# Altium integrated library TI Power Management Power Modules.IntLib: 831 symbols (part 33 of 44)
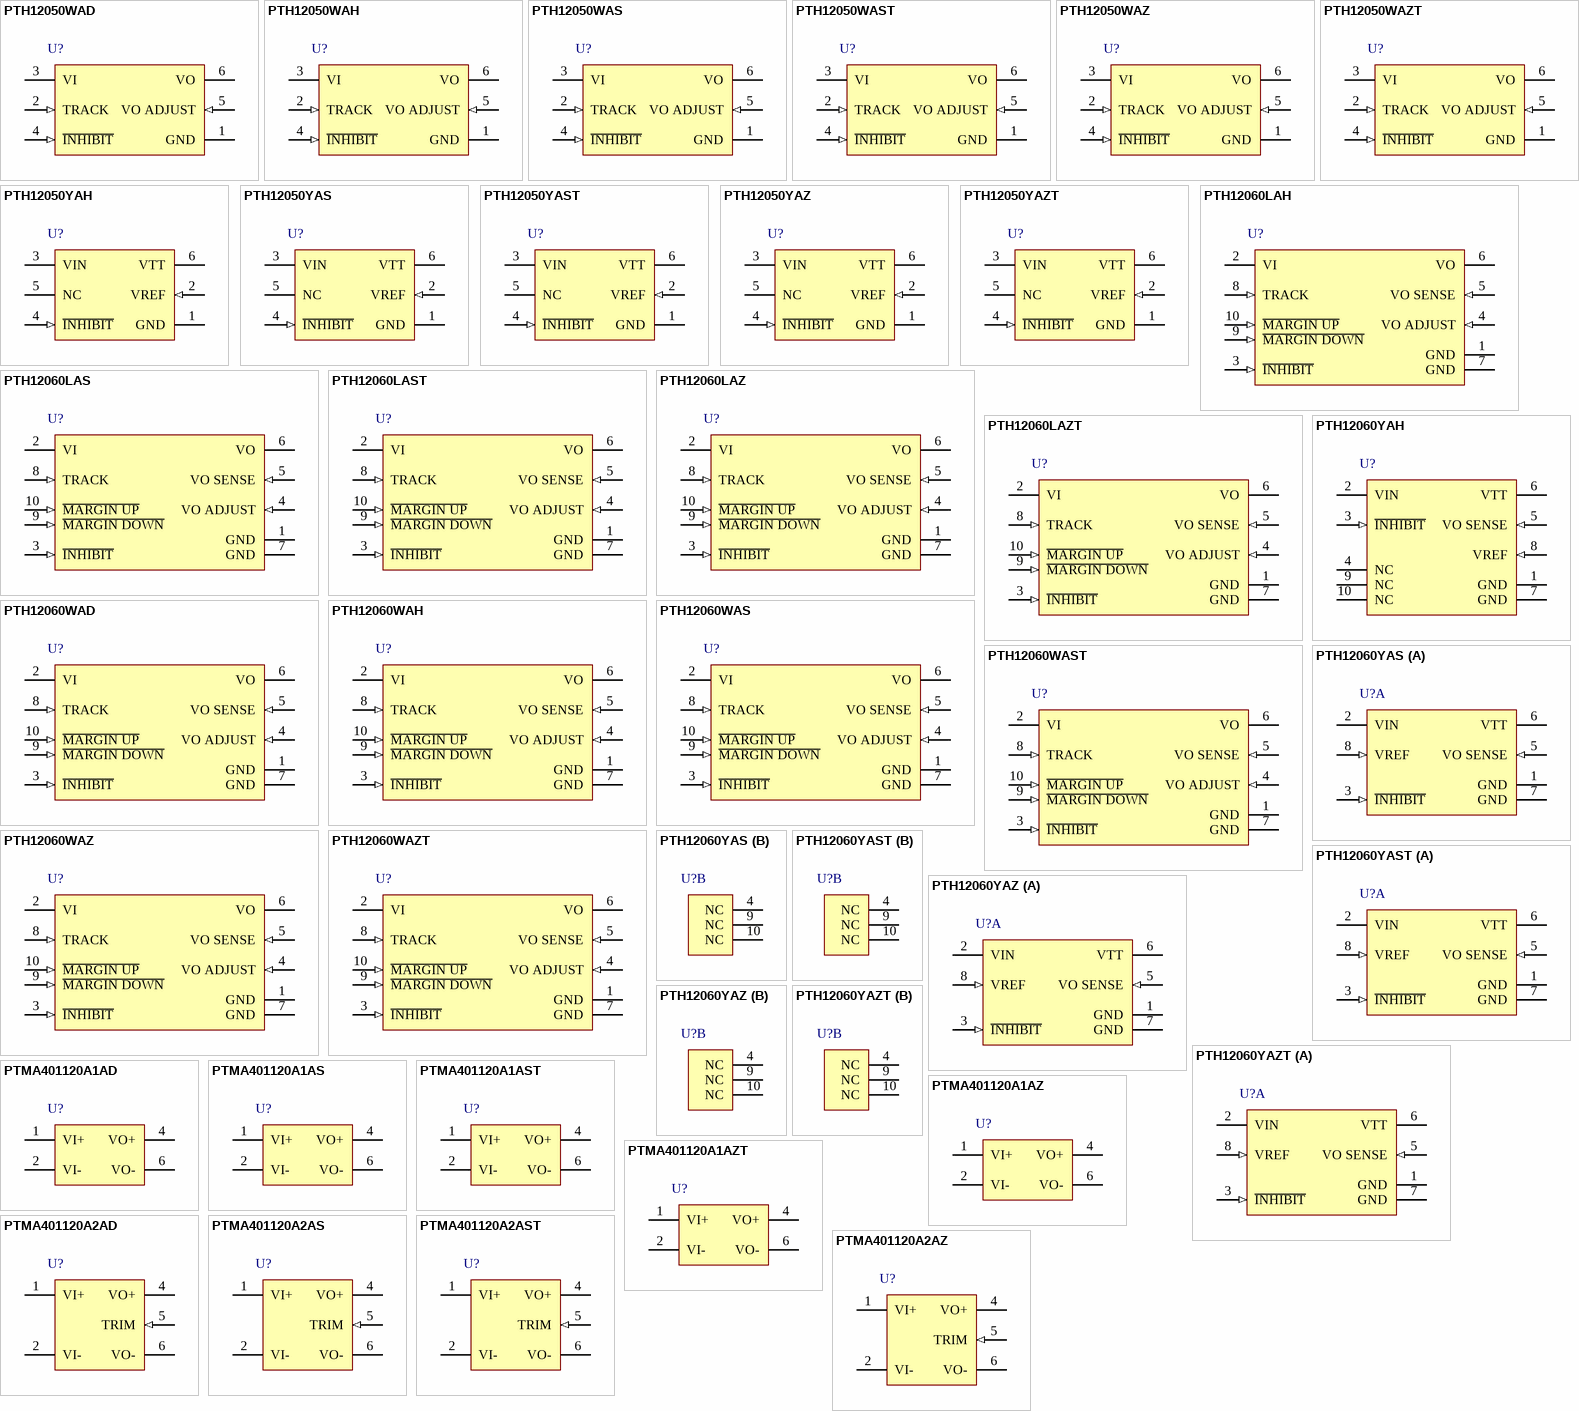
[diagram p55: symbols PTH12050WAD to PTMA401120A2AZ]

## PTH12050WAZ
designator U?
1.2 to 5.5 V, 6 A, 12 V Input Non-Isolated Wide Adjust Module, -40 to 85 degC, 6-pin Module (EUV6), Pb-Free (RoHS); Manufacturer: Texas Instruments; PartNumber: PTH12050WAZ; Iout(Max)(A): 6; Regulated Outputs(#): 1; SubFamily: Non-Isolated POL; Vin(Max)(V): 13.2; Vin(Min)(V): 10.8; VO Adjustable: TRUE; Vout(Max)(V): 5.5; Vout(Min)(V): 1.2; DatasheetVersion: SLTS214H; PackageVersion: 4205247-4/C; PackageReference: EUV6; PackageDescription: 6-Pin Plastic Special Shape, Body 12.57 x 22.1 mm; Supplier 1: Digi-Key; Supplier Part Number 1: 296-20479-ND; Supplier 2: Farnell; Supplier Part Number 2: 1103300; Supplier 3: Newark; Supplier Part Number 3: 97K7876; Supplier 4: Newark; Supplier Part Number 4: 37K0752; Supplier 5: Mouser; Supplier Part Number 5: 595-PTH12050WAZ; Eco-Plan: Pb-Free (RoHS); Mounting Technology: Surface Mount; ComponentLink1Description: Manufacturer URL; ComponentLink1URL: http://www.ti.com/; ComponentLink2Description: Datasheet; ComponentLink2URL: http://www.ti.com/general/docs/lit/getliterature.tsp?genericPartNumber=PTH12050W&fileType=pdf; ComponentLink3Description: Package Specification; ComponentLink3URL: http://www.ti.com/lit/ml/mpds143b/mpds143b.pdf; ComponentLink4Description: URL Link1; ComponentLink4URL: Samples URL:http://www.ti.com/product/pth12050w#samples
footprint TI-EUV6_V (Module, 6-Leads, Body 22.1x12.57mm)
pins: 1 GND (power) "This is the common ground connection for the VI and VO power connections. It is also the 0-VDC reference for the control inputs.", 2 TRACK (in) "This is an analog control input that enables the output voltage to follow an external voltage. This pin becomes active typically 20 ms after the input voltage has been applied, and allows direct control of the output voltage (See Datasheet)", 3 VI (power) "The positive input voltage power node to the module, which is referenced to common GND.", 4 ~{INHIBIT} (in) "The Inhibit pin is an open-collector/drain negative logic input that is referenced to GND. Applying a low-level ground signal to this input disables the module’s output and turns off the output voltage. When the Inhibit (See Datasheet)", 5 VO ADJUST (in) "A 1% resistor must be directly connected between this pin and GND (pin 1) to set the output voltage of the module to a value higher than its lowest value. The temperature stability of the resistor should be 100 ppm/degreesC (See Datasheet)", 6 VO (power) "The regulated positive power output with respect to the GND node."

## PTH12050WAZT
designator U?
1.2 to 5.5 V, 6 A, 12 V Input Non-Isolated Wide Adjust Module, -40 to 85 degC, 6-pin Module (EUV6), Pb-Free (RoHS); Manufacturer: Texas Instruments; PartNumber: PTH12050WAZT; Iout(Max)(A): 6; Regulated Outputs(#): 1; SubFamily: Non-Isolated POL; Vin(Max)(V): 13.2; Vin(Min)(V): 10.8; VO Adjustable: TRUE; Vout(Max)(V): 5.5; Vout(Min)(V): 1.2; DatasheetVersion: SLTS214H; PackageVersion: 4205247-4/C; PackageReference: EUV6; PackageDescription: 6-Pin Plastic Special Shape, Body 12.57 x 22.1 mm; Supplier 1: Digi-Key; Supplier Part Number 1: 296-26315-2-ND; Supplier 2: Digi-Key; Supplier Part Number 2: 296-26315-1-ND; Supplier 3: Digi-Key; Supplier Part Number 3: 296-26315-6-ND; Supplier 4: Newark; Supplier Part Number 4: 37K0753; Supplier 5: Mouser; Supplier Part Number 5: 595-PTH12050WAZT; Eco-Plan: Pb-Free (RoHS); Mounting Technology: Surface Mount; ComponentLink1Description: Manufacturer URL; ComponentLink1URL: http://www.ti.com/; ComponentLink2Description: Datasheet; ComponentLink2URL: http://www.ti.com/general/docs/lit/getliterature.tsp?genericPartNumber=PTH12050W&fileType=pdf; ComponentLink3Description: Package Specification; ComponentLink3URL: http://www.ti.com/lit/ml/mpds143b/mpds143b.pdf; ComponentLink4Description: URL Link1; ComponentLink4URL: Samples URL:http://www.ti.com/product/pth12050w#samples
footprint TI-EUV6_V (Module, 6-Leads, Body 22.1x12.57mm)
pins: 1 GND (power) "This is the common ground connection for the VI and VO power connections. It is also the 0-VDC reference for the control inputs.", 2 TRACK (in) "This is an analog control input that enables the output voltage to follow an external voltage. This pin becomes active typically 20 ms after the input voltage has been applied, and allows direct control of the output voltage (See Datasheet)", 3 VI (power) "The positive input voltage power node to the module, which is referenced to common GND.", 4 ~{INHIBIT} (in) "The Inhibit pin is an open-collector/drain negative logic input that is referenced to GND. Applying a low-level ground signal to this input disables the module’s output and turns off the output voltage. When the Inhibit (See Datasheet)", 5 VO ADJUST (in) "A 1% resistor must be directly connected between this pin and GND (pin 1) to set the output voltage of the module to a value higher than its lowest value. The temperature stability of the resistor should be 100 ppm/degreesC (See Datasheet)", 6 VO (power) "The regulated positive power output with respect to the GND node."

## PTH12050YAH
designator U?
6 A, 12 V Input Non-Isolated DDR / QDR Memory Bus Termination Module, -40 to 85 degC, 6-pin Module (EUU6), Pb-Free (RoHS); Manufacturer: Texas Instruments; PartNumber: PTH12050YAH; Iout(Max)(A): 6; Regulated Outputs(#): 1; SubFamily: Non-Isolated POL; Vin(Max)(V): 13.2; Vin(Min)(V): 10.8; Vout(Max)(V): 1.8; Vout(Min)(V): 0.55; DatasheetVersion: SLTS221A; PackageVersion: 4205246-4/C; PackageReference: EUU6; PackageDescription: 6-Pin Plastic Special Shape, Body 12.57 x 22.1 mm; Supplier 1: Digi-Key; Supplier Part Number 1: 296-20480-ND; Supplier 2: Newark; Supplier Part Number 2: 01J0656; Supplier 3: Mouser; Supplier Part Number 3: 595-PTH12050YAH; Eco-Plan: Pb-Free (RoHS); Mounting Technology: Through Hole; ComponentLink1Description: Manufacturer URL; ComponentLink1URL: http://www.ti.com/; ComponentLink2Description: Datasheet; ComponentLink2URL: http://www.ti.com/general/docs/lit/getliterature.tsp?genericPartNumber=PTH12050Y&fileType=pdf; ComponentLink3Description: Package Specification; ComponentLink3URL: http://www.ti.com/lit/ml/mpds142b/mpds142b.pdf; ComponentLink4Description: URL Link1; ComponentLink4URL: Samples URL:http://www.ti.com/product/pth12050y#samples
footprint TI-EUU6_V (Module, 6-Leads, Body 22.1.12x12.57mm)
pins: 1 GND (power) "This is the common ground connection for the VIN and VTT power connections. It is also the 0-VDC reference for the control inputs.", 2 VREF (in) "The module senses the voltage at this input to regulate the output voltage, VTT. The voltage at VREF is also the reference voltage for the system bus receiver comparators. It is normally set to precisely half the bus driver (See Datasheet)", 3 VIN (power) "The positive input voltage power node to the module, which is referenced to common GND.", 4 ~{INHIBIT} (in) "The Inhibit pin is an open-collector/drain negative logic input that is referenced to GND. Applying a low-level ground signal to this input turns off the output voltage, VTT. Although the module is inhibited, a voltage, VDDQ (See Datasheet)", 5 NC "No Connection", 6 VTT (power) "This is the regulated power output from the module with respect to the GND node, and the tracking termination supply for the application data and address buses. It is precisely regulated to the voltage applied to the (See Datasheet)"

## PTH12050YAS
designator U?
6 A, 12 V Input Non-Isolated DDR / QDR Memory Bus Termination Module, -40 to 85 degC, 6-pin Module (EUV6); Manufacturer: Texas Instruments; PartNumber: PTH12050YAS; Eco-Plan: TBD; Iout(Max)(A): 6; Regulated Outputs(#): 1; SubFamily: Non-Isolated POL; Vin(Max)(V): 13.2; Vin(Min)(V): 10.8; Vout(Max)(V): 1.8; Vout(Min)(V): 0.55; DatasheetVersion: SLTS221A; PackageVersion: 4205247-4/C; PackageReference: EUV6; PackageDescription: 6-Pin Plastic Special Shape, Body 12.57 x 22.1 mm; Supplier 1: Digi-Key; Supplier Part Number 1: 296-20481-ND; Supplier 2: Newark; Supplier Part Number 2: 01J0657; Supplier 3: Mouser; Supplier Part Number 3: 595-PTH12050YAS; Mounting Technology: Surface Mount; ComponentLink1Description: Manufacturer URL; ComponentLink1URL: http://www.ti.com/; ComponentLink2Description: Datasheet; ComponentLink2URL: http://www.ti.com/general/docs/lit/getliterature.tsp?genericPartNumber=PTH12050Y&fileType=pdf; ComponentLink3Description: Package Specification; ComponentLink3URL: http://www.ti.com/lit/ml/mpds143b/mpds143b.pdf; ComponentLink4Description: URL Link1; ComponentLink4URL: Samples URL:http://www.ti.com/product/pth12050y#samples
footprint TI-EUV6_V (Module, 6-Leads, Body 22.1x12.57mm)
pins: 1 GND (power) "This is the common ground connection for the VIN and VTT power connections. It is also the 0-VDC reference for the control inputs.", 2 VREF (in) "The module senses the voltage at this input to regulate the output voltage, VTT. The voltage at VREF is also the reference voltage for the system bus receiver comparators. It is normally set to precisely half the bus driver (See Datasheet)", 3 VIN (power) "The positive input voltage power node to the module, which is referenced to common GND.", 4 ~{INHIBIT} (in) "The Inhibit pin is an open-collector/drain negative logic input that is referenced to GND. Applying a low-level ground signal to this input turns off the output voltage, VTT. Although the module is inhibited, a voltage, VDDQ (See Datasheet)", 5 NC "No Connection", 6 VTT (power) "This is the regulated power output from the module with respect to the GND node, and the tracking termination supply for the application data and address buses. It is precisely regulated to the voltage applied to the (See Datasheet)"

## PTH12050YAST
designator U?
6 A, 12 V Input Non-Isolated DDR / QDR Memory Bus Termination Module, -40 to 85 degC, 6-pin Module (EUV6); Manufacturer: Texas Instruments; PartNumber: PTH12050YAST; Eco-Plan: TBD; Iout(Max)(A): 6; Regulated Outputs(#): 1; SubFamily: Non-Isolated POL; Vin(Max)(V): 13.2; Vin(Min)(V): 10.8; Vout(Max)(V): 1.8; Vout(Min)(V): 0.55; DatasheetVersion: SLTS221A; PackageVersion: 4205247-4/C; PackageReference: EUV6; PackageDescription: 6-Pin Plastic Special Shape, Body 12.57 x 22.1 mm; Supplier 1: Digi-Key; Supplier Part Number 1: PTH12050YAST-ND; Supplier 2: Newark; Supplier Part Number 2: 01J0658; Supplier 3: Mouser; Supplier Part Number 3: 595-PTH12050YAST; Mounting Technology: Surface Mount; ComponentLink1Description: Manufacturer URL; ComponentLink1URL: http://www.ti.com/; ComponentLink2Description: Datasheet; ComponentLink2URL: http://www.ti.com/general/docs/lit/getliterature.tsp?genericPartNumber=PTH12050Y&fileType=pdf; ComponentLink3Description: Package Specification; ComponentLink3URL: http://www.ti.com/lit/ml/mpds143b/mpds143b.pdf; ComponentLink4Description: URL Link1; ComponentLink4URL: Samples URL:http://www.ti.com/product/pth12050y#samples
footprint TI-EUV6_V (Module, 6-Leads, Body 22.1x12.57mm)
pins: 1 GND (power) "This is the common ground connection for the VIN and VTT power connections. It is also the 0-VDC reference for the control inputs.", 2 VREF (in) "The module senses the voltage at this input to regulate the output voltage, VTT. The voltage at VREF is also the reference voltage for the system bus receiver comparators. It is normally set to precisely half the bus driver (See Datasheet)", 3 VIN (power) "The positive input voltage power node to the module, which is referenced to common GND.", 4 ~{INHIBIT} (in) "The Inhibit pin is an open-collector/drain negative logic input that is referenced to GND. Applying a low-level ground signal to this input turns off the output voltage, VTT. Although the module is inhibited, a voltage, VDDQ (See Datasheet)", 5 NC "No Connection", 6 VTT (power) "This is the regulated power output from the module with respect to the GND node, and the tracking termination supply for the application data and address buses. It is precisely regulated to the voltage applied to the (See Datasheet)"

## PTH12050YAZ
designator U?
6 A, 12 V Input Non-Isolated DDR / QDR Memory Bus Termination Module, -40 to 85 degC, 6-pin Module (EUV6), Pb-Free (RoHS); Manufacturer: Texas Instruments; PartNumber: PTH12050YAZ; Iout(Max)(A): 6; Regulated Outputs(#): 1; SubFamily: Non-Isolated POL; Vin(Max)(V): 13.2; Vin(Min)(V): 10.8; Vout(Max)(V): 1.8; Vout(Min)(V): 0.55; DatasheetVersion: SLTS221A; PackageVersion: 4205247-4/C; PackageReference: EUV6; PackageDescription: 6-Pin Plastic Special Shape, Body 12.57 x 22.1 mm; Supplier 1: Digi-Key; Supplier Part Number 1: 296-20482-ND; Supplier 2: Newark; Supplier Part Number 2: 37K0754; Supplier 3: Mouser; Supplier Part Number 3: 595-PTH12050YAZ; Eco-Plan: Pb-Free (RoHS); Mounting Technology: Surface Mount; ComponentLink1Description: Manufacturer URL; ComponentLink1URL: http://www.ti.com/; ComponentLink2Description: Datasheet; ComponentLink2URL: http://www.ti.com/general/docs/lit/getliterature.tsp?genericPartNumber=PTH12050Y&fileType=pdf; ComponentLink3Description: Package Specification; ComponentLink3URL: http://www.ti.com/lit/ml/mpds143b/mpds143b.pdf; ComponentLink4Description: URL Link1; ComponentLink4URL: Samples URL:http://www.ti.com/product/pth12050y#samples
footprint TI-EUV6_V (Module, 6-Leads, Body 22.1x12.57mm)
pins: 1 GND (power) "This is the common ground connection for the VIN and VTT power connections. It is also the 0-VDC reference for the control inputs.", 2 VREF (in) "The module senses the voltage at this input to regulate the output voltage, VTT. The voltage at VREF is also the reference voltage for the system bus receiver comparators. It is normally set to precisely half the bus driver (See Datasheet)", 3 VIN (power) "The positive input voltage power node to the module, which is referenced to common GND.", 4 ~{INHIBIT} (in) "The Inhibit pin is an open-collector/drain negative logic input that is referenced to GND. Applying a low-level ground signal to this input turns off the output voltage, VTT. Although the module is inhibited, a voltage, VDDQ (See Datasheet)", 5 NC "No Connection", 6 VTT (power) "This is the regulated power output from the module with respect to the GND node, and the tracking termination supply for the application data and address buses. It is precisely regulated to the voltage applied to the (See Datasheet)"

## PTH12050YAZT
designator U?
6 A, 12 V Input Non-Isolated DDR / QDR Memory Bus Termination Module, -40 to 85 degC, 6-pin Module (EUV6), Pb-Free (RoHS); Manufacturer: Texas Instruments; PartNumber: PTH12050YAZT; Iout(Max)(A): 6; Regulated Outputs(#): 1; SubFamily: Non-Isolated POL; Vin(Max)(V): 13.2; Vin(Min)(V): 10.8; Vout(Max)(V): 1.8; Vout(Min)(V): 0.55; DatasheetVersion: SLTS221A; PackageVersion: 4205247-4/C; PackageReference: EUV6; PackageDescription: 6-Pin Plastic Special Shape, Body 12.57 x 22.1 mm; Supplier 1: Digi-Key; Supplier Part Number 1: PTH12050YAZT-ND; Supplier 2: Newark; Supplier Part Number 2: 37K0755; Supplier 3: Mouser; Supplier Part Number 3: 595-PTH12050YAZT; Eco-Plan: Pb-Free (RoHS); Mounting Technology: Surface Mount; ComponentLink1Description: Manufacturer URL; ComponentLink1URL: http://www.ti.com/; ComponentLink2Description: Datasheet; ComponentLink2URL: http://www.ti.com/general/docs/lit/getliterature.tsp?genericPartNumber=PTH12050Y&fileType=pdf; ComponentLink3Description: Package Specification; ComponentLink3URL: http://www.ti.com/lit/ml/mpds143b/mpds143b.pdf; ComponentLink4Description: URL Link1; ComponentLink4URL: Samples URL:http://www.ti.com/product/pth12050y#samples
footprint TI-EUV6_V (Module, 6-Leads, Body 22.1x12.57mm)
pins: 1 GND (power) "This is the common ground connection for the VIN and VTT power connections. It is also the 0-VDC reference for the control inputs.", 2 VREF (in) "The module senses the voltage at this input to regulate the output voltage, VTT. The voltage at VREF is also the reference voltage for the system bus receiver comparators. It is normally set to precisely half the bus driver (See Datasheet)", 3 VIN (power) "The positive input voltage power node to the module, which is referenced to common GND.", 4 ~{INHIBIT} (in) "The Inhibit pin is an open-collector/drain negative logic input that is referenced to GND. Applying a low-level ground signal to this input turns off the output voltage, VTT. Although the module is inhibited, a voltage, VDDQ (See Datasheet)", 5 NC "No Connection", 6 VTT (power) "This is the regulated power output from the module with respect to the GND node, and the tracking termination supply for the application data and address buses. It is precisely regulated to the voltage applied to the (See Datasheet)"

## PTH12060LAH
designator U?
0.8 to 1.8 V, 10 A, 12 V Input Non-Isolated Wide Adjust Module, -40 to 85 degC, 10-pin Module (EUW10), Pb-Free (RoHS); Manufacturer: Texas Instruments; PartNumber: PTH12060LAH; Iout(Max)(A): 10; Regulated Outputs(#): 1; SubFamily: Non-Isolated POL; Vin(Max)(V): 13.2; Vin(Min)(V): 10.8; VO Adjustable: TRUE; Vout(Max)(V): 1.8; Vout(Min)(V): 0.8; DatasheetVersion: SLTS217H; PackageVersion: 4205248-3/B; PackageReference: EUW10; PackageDescription: 10-Pin Plastic Special Shape, Body 15.75 x 25.27 mm; Supplier 1: Digi-Key; Supplier Part Number 1: 296-20483-ND; Supplier 2: Newark; Supplier Part Number 2: 01J0659; Supplier 3: Mouser; Supplier Part Number 3: 595-PTH12060LAH; Eco-Plan: Pb-Free (RoHS); Mounting Technology: Through Hole; ComponentLink1Description: Manufacturer URL; ComponentLink1URL: http://www.ti.com/; ComponentLink2Description: Datasheet; ComponentLink2URL: http://www.ti.com/general/docs/lit/getliterature.tsp?genericPartNumber=PTH12060L&fileType=pdf; ComponentLink3Description: Package Specification; ComponentLink3URL: http://www.ti.com/litv/pdf/mpds144a; ComponentLink4Description: URL Link1; ComponentLink4URL: Samples URL:http://www.ti.com/product/pth12060l#samples
footprint TI-EUW10_V (Module, 10-Leads, Body 25.27x15.75mm)
pins: 1 GND (power) "This is the common ground connection for the Vin and Vout power connections. It is also the 0 VDC reference for the control inputs.", 2 VI (power) "The positive input voltage power node to the module, which is referenced to common GND.", 3 ~{INHIBIT} (in) "The Inhibit pin is an open-collector/drain negative logic input that is referenced to GND. Applying a lowlevel ground signal to this input disables the module’s output and turns off the output voltage. When the Inhibit (See Datasheet)", 4 VO ADJUST (in) "A 1% resistor must be connected directly between this pin and GND (pin 7) to set the output voltage of the module higher than its lowest value. The temperature stability of the resistor should be 100 ppm/degreesC (or better).(See Datasheet)", 5 VO SENSE (in) "The sense input allows the regulation circuit to compensate for voltage drop between the module and the load. For optimal voltage accuracy Vo Sense should be connected to Vout. It can also be left disconnected.", 6 VO (power) "The regulated positive power output with respect to the GND node.", 7 GND (power) "This is the common ground connection for the Vin and Vout power connections. It is also the 0 VDC reference for the control inputs.", 8 TRACK (in) "This is an analog control input that enables the output voltage to follow an external voltage. This pin becomes active typically 20 ms after the input voltage has been applied, and allows direct control of the output voltage (See Datasheet)", 9 ~{MARGIN DOWN} (in) "When this input is asserted to GND, the output voltage is decreased by 5% from the nominal. The input requires an open-collector (open-drain) interface. It is not TTL compatible. A lower percent change can be accomodated (See Datasheet)", 10 ~{MARGIN UP} (in) "When this input is asserted to GND, the output voltage is increased by 5%. The input requires an open-collector (open-drain) interface. It is not TTL compatible. The percent change can be reduced with a series resistor. For (See Datasheet)"

## PTH12060LAS
designator U?
0.8 to 1.8 V, 10 A, 12 V Input Non-Isolated Wide Adjust Module, -40 to 85 degC, 10-pin Module (EUY10); Manufacturer: Texas Instruments; PartNumber: PTH12060LAS; Eco-Plan: TBD; Iout(Max)(A): 10; Regulated Outputs(#): 1; SubFamily: Non-Isolated POL; Vin(Max)(V): 13.2; Vin(Min)(V): 10.8; VO Adjustable: TRUE; Vout(Max)(V): 1.8; Vout(Min)(V): 0.8; DatasheetVersion: SLTS217H; PackageVersion: 4205249-3/B; PackageReference: EUY10; PackageDescription: 10-Pin Plastic Special Shape, Body 15.75 x 25.27 mm; Supplier 1: Digi-Key; Supplier Part Number 1: 296-20484-ND; Supplier 2: Newark; Supplier Part Number 2: 01J0660; Supplier 3: Mouser; Supplier Part Number 3: 595-PTH12060LAS; Mounting Technology: Surface Mount; ComponentLink1Description: Manufacturer URL; ComponentLink1URL: http://www.ti.com/; ComponentLink2Description: Datasheet; ComponentLink2URL: http://www.ti.com/general/docs/lit/getliterature.tsp?genericPartNumber=PTH12060L&fileType=pdf; ComponentLink3Description: Package Specification; ComponentLink3URL: http://www.ti.com/lit/ml/mpds145a/mpds145a.pdf; ComponentLink4Description: URL Link1; ComponentLink4URL: Samples URL:http://www.ti.com/product/pth12060l#samples
footprint TI-EUY10_V (Module, 10-Leads, Body 25.27x15.75mm)
pins: 1 GND (power) "This is the common ground connection for the Vin and Vout power connections. It is also the 0 VDC reference for the control inputs.", 2 VI (power) "The positive input voltage power node to the module, which is referenced to common GND.", 3 ~{INHIBIT} (in) "The Inhibit pin is an open-collector/drain negative logic input that is referenced to GND. Applying a lowlevel ground signal to this input disables the module’s output and turns off the output voltage. When the Inhibit (See Datasheet)", 4 VO ADJUST (in) "A 1% resistor must be connected directly between this pin and GND (pin 7) to set the output voltage of the module higher than its lowest value. The temperature stability of the resistor should be 100 ppm/degreesC (or better).(See Datasheet)", 5 VO SENSE (in) "The sense input allows the regulation circuit to compensate for voltage drop between the module and the load. For optimal voltage accuracy Vo Sense should be connected to Vout. It can also be left disconnected.", 6 VO (power) "The regulated positive power output with respect to the GND node.", 7 GND (power) "This is the common ground connection for the Vin and Vout power connections. It is also the 0 VDC reference for the control inputs.", 8 TRACK (in) "This is an analog control input that enables the output voltage to follow an external voltage. This pin becomes active typically 20 ms after the input voltage has been applied, and allows direct control of the output voltage (See Datasheet)", 9 ~{MARGIN DOWN} (in) "When this input is asserted to GND, the output voltage is decreased by 5% from the nominal. The input requires an open-collector (open-drain) interface. It is not TTL compatible. A lower percent change can be accomodated (See Datasheet)", 10 ~{MARGIN UP} (in) "When this input is asserted to GND, the output voltage is increased by 5%. The input requires an open-collector (open-drain) interface. It is not TTL compatible. The percent change can be reduced with a series resistor. For (See Datasheet)"

## PTH12060LAST
designator U?
0.8 to 1.8 V, 10 A, 12 V Input Non-Isolated Wide Adjust Module, -40 to 85 degC, 10-pin Module (EUY10); Manufacturer: Texas Instruments; PartNumber: PTH12060LAST; Eco-Plan: TBD; Iout(Max)(A): 10; Regulated Outputs(#): 1; SubFamily: Non-Isolated POL; Vin(Max)(V): 13.2; Vin(Min)(V): 10.8; VO Adjustable: TRUE; Vout(Max)(V): 1.8; Vout(Min)(V): 0.8; DatasheetVersion: SLTS217H; PackageVersion: 4205249-3/B; PackageReference: EUY10; PackageDescription: 10-Pin Plastic Special Shape, Body 15.75 x 25.27 mm; Supplier 1: Digi-Key; Supplier Part Number 1: PTH12060LAST-ND; Supplier 2: Newark; Supplier Part Number 2: 01J0661; Supplier 3: Mouser; Supplier Part Number 3: 595-PTH12060LAST; Mounting Technology: Surface Mount; ComponentLink1Description: Manufacturer URL; ComponentLink1URL: http://www.ti.com/; ComponentLink2Description: Datasheet; ComponentLink2URL: http://www.ti.com/general/docs/lit/getliterature.tsp?genericPartNumber=PTH12060L&fileType=pdf; ComponentLink3Description: Package Specification; ComponentLink3URL: http://www.ti.com/lit/ml/mpds145a/mpds145a.pdf; ComponentLink4Description: URL Link1; ComponentLink4URL: Samples URL:http://www.ti.com/product/pth12060l#samples
footprint TI-EUY10_V (Module, 10-Leads, Body 25.27x15.75mm)
pins: 1 GND (power) "This is the common ground connection for the Vin and Vout power connections. It is also the 0 VDC reference for the control inputs.", 2 VI (power) "The positive input voltage power node to the module, which is referenced to common GND.", 3 ~{INHIBIT} (in) "The Inhibit pin is an open-collector/drain negative logic input that is referenced to GND. Applying a lowlevel ground signal to this input disables the module’s output and turns off the output voltage. When the Inhibit (See Datasheet)", 4 VO ADJUST (in) "A 1% resistor must be connected directly between this pin and GND (pin 7) to set the output voltage of the module higher than its lowest value. The temperature stability of the resistor should be 100 ppm/degreesC (or better).(See Datasheet)", 5 VO SENSE (in) "The sense input allows the regulation circuit to compensate for voltage drop between the module and the load. For optimal voltage accuracy Vo Sense should be connected to Vout. It can also be left disconnected.", 6 VO (power) "The regulated positive power output with respect to the GND node.", 7 GND (power) "This is the common ground connection for the Vin and Vout power connections. It is also the 0 VDC reference for the control inputs.", 8 TRACK (in) "This is an analog control input that enables the output voltage to follow an external voltage. This pin becomes active typically 20 ms after the input voltage has been applied, and allows direct control of the output voltage (See Datasheet)", 9 ~{MARGIN DOWN} (in) "When this input is asserted to GND, the output voltage is decreased by 5% from the nominal. The input requires an open-collector (open-drain) interface. It is not TTL compatible. A lower percent change can be accomodated (See Datasheet)", 10 ~{MARGIN UP} (in) "When this input is asserted to GND, the output voltage is increased by 5%. The input requires an open-collector (open-drain) interface. It is not TTL compatible. The percent change can be reduced with a series resistor. For (See Datasheet)"

## PTH12060LAZ
designator U?
0.8 to 1.8 V, 10 A, 12 V Input Non-Isolated Wide Adjust Module, -40 to 85 degC, 10-pin Module (EUY10), Pb-Free (RoHS); Manufacturer: Texas Instruments; PartNumber: PTH12060LAZ; Iout(Max)(A): 10; Regulated Outputs(#): 1; SubFamily: Non-Isolated POL; Vin(Max)(V): 13.2; Vin(Min)(V): 10.8; VO Adjustable: TRUE; Vout(Max)(V): 1.8; Vout(Min)(V): 0.8; DatasheetVersion: SLTS217H; PackageVersion: 4205249-3/B; PackageReference: EUY10; PackageDescription: 10-Pin Plastic Special Shape, Body 15.75 x 25.27 mm; Supplier 1: Digi-Key; Supplier Part Number 1: 296-20485-ND; Supplier 2: Newark; Supplier Part Number 2: 37K0756; Supplier 3: Mouser; Supplier Part Number 3: 595-PTH12060LAZ; Eco-Plan: Pb-Free (RoHS); Mounting Technology: Surface Mount; ComponentLink1Description: Manufacturer URL; ComponentLink1URL: http://www.ti.com/; ComponentLink2Description: Datasheet; ComponentLink2URL: http://www.ti.com/general/docs/lit/getliterature.tsp?genericPartNumber=PTH12060L&fileType=pdf; ComponentLink3Description: Package Specification; ComponentLink3URL: http://www.ti.com/lit/ml/mpds145a/mpds145a.pdf; ComponentLink4Description: URL Link1; ComponentLink4URL: Samples URL:http://www.ti.com/product/pth12060l#samples
footprint TI-EUY10_V (Module, 10-Leads, Body 25.27x15.75mm)
pins: 1 GND (power) "This is the common ground connection for the Vin and Vout power connections. It is also the 0 VDC reference for the control inputs.", 2 VI (power) "The positive input voltage power node to the module, which is referenced to common GND.", 3 ~{INHIBIT} (in) "The Inhibit pin is an open-collector/drain negative logic input that is referenced to GND. Applying a lowlevel ground signal to this input disables the module’s output and turns off the output voltage. When the Inhibit (See Datasheet)", 4 VO ADJUST (in) "A 1% resistor must be connected directly between this pin and GND (pin 7) to set the output voltage of the module higher than its lowest value. The temperature stability of the resistor should be 100 ppm/degreesC (or better).(See Datasheet)", 5 VO SENSE (in) "The sense input allows the regulation circuit to compensate for voltage drop between the module and the load. For optimal voltage accuracy Vo Sense should be connected to Vout. It can also be left disconnected.", 6 VO (power) "The regulated positive power output with respect to the GND node.", 7 GND (power) "This is the common ground connection for the Vin and Vout power connections. It is also the 0 VDC reference for the control inputs.", 8 TRACK (in) "This is an analog control input that enables the output voltage to follow an external voltage. This pin becomes active typically 20 ms after the input voltage has been applied, and allows direct control of the output voltage (See Datasheet)", 9 ~{MARGIN DOWN} (in) "When this input is asserted to GND, the output voltage is decreased by 5% from the nominal. The input requires an open-collector (open-drain) interface. It is not TTL compatible. A lower percent change can be accomodated (See Datasheet)", 10 ~{MARGIN UP} (in) "When this input is asserted to GND, the output voltage is increased by 5%. The input requires an open-collector (open-drain) interface. It is not TTL compatible. The percent change can be reduced with a series resistor. For (See Datasheet)"

## PTH12060LAZT
designator U?
0.8 to 1.8 V, 10 A, 12 V Input Non-Isolated Wide Adjust Module, -40 to 85 degC, 10-pin Module (EUY10), Pb-Free (RoHS); Manufacturer: Texas Instruments; PartNumber: PTH12060LAZT; Iout(Max)(A): 10; Regulated Outputs(#): 1; SubFamily: Non-Isolated POL; Vin(Max)(V): 13.2; Vin(Min)(V): 10.8; VO Adjustable: TRUE; Vout(Max)(V): 1.8; Vout(Min)(V): 0.8; DatasheetVersion: SLTS217H; PackageVersion: 4205249-3/B; PackageReference: EUY10; PackageDescription: 10-Pin Plastic Special Shape, Body 15.75 x 25.27 mm; Supplier 1: Digi-Key; Supplier Part Number 1: PTH12060LAZT-ND; Supplier 2: Newark; Supplier Part Number 2: 37K0757; Supplier 3: Mouser; Supplier Part Number 3: 595-PTH12060LAZT; Eco-Plan: Pb-Free (RoHS); Mounting Technology: Surface Mount; ComponentLink1Description: Manufacturer URL; ComponentLink1URL: http://www.ti.com/; ComponentLink2Description: Datasheet; ComponentLink2URL: http://www.ti.com/general/docs/lit/getliterature.tsp?genericPartNumber=PTH12060L&fileType=pdf; ComponentLink3Description: Package Specification; ComponentLink3URL: http://www.ti.com/lit/ml/mpds145a/mpds145a.pdf; ComponentLink4Description: URL Link1; ComponentLink4URL: Samples URL:http://www.ti.com/product/pth12060l#samples
footprint TI-EUY10_V (Module, 10-Leads, Body 25.27x15.75mm)
pins: 1 GND (power) "This is the common ground connection for the Vin and Vout power connections. It is also the 0 VDC reference for the control inputs.", 2 VI (power) "The positive input voltage power node to the module, which is referenced to common GND.", 3 ~{INHIBIT} (in) "The Inhibit pin is an open-collector/drain negative logic input that is referenced to GND. Applying a lowlevel ground signal to this input disables the module’s output and turns off the output voltage. When the Inhibit (See Datasheet)", 4 VO ADJUST (in) "A 1% resistor must be connected directly between this pin and GND (pin 7) to set the output voltage of the module higher than its lowest value. The temperature stability of the resistor should be 100 ppm/degreesC (or better).(See Datasheet)", 5 VO SENSE (in) "The sense input allows the regulation circuit to compensate for voltage drop between the module and the load. For optimal voltage accuracy Vo Sense should be connected to Vout. It can also be left disconnected.", 6 VO (power) "The regulated positive power output with respect to the GND node.", 7 GND (power) "This is the common ground connection for the Vin and Vout power connections. It is also the 0 VDC reference for the control inputs.", 8 TRACK (in) "This is an analog control input that enables the output voltage to follow an external voltage. This pin becomes active typically 20 ms after the input voltage has been applied, and allows direct control of the output voltage (See Datasheet)", 9 ~{MARGIN DOWN} (in) "When this input is asserted to GND, the output voltage is decreased by 5% from the nominal. The input requires an open-collector (open-drain) interface. It is not TTL compatible. A lower percent change can be accomodated (See Datasheet)", 10 ~{MARGIN UP} (in) "When this input is asserted to GND, the output voltage is increased by 5%. The input requires an open-collector (open-drain) interface. It is not TTL compatible. The percent change can be reduced with a series resistor. For (See Datasheet)"

## PTH12060WAD
designator U?
1.2 to 5.5 V, 10 A, 12 V Input Non-Isolated Wide Adjust Module, -40 to 85 degC, 10-pin Module (EUW10), Pb-Free (RoHS); Manufacturer: Texas Instruments; PartNumber: PTH12060WAD; Iout(Max)(A): 10; Regulated Outputs(#): 1; SubFamily: Non-Isolated POL; Vin(Max)(V): 13.2; Vin(Min)(V): 10.8; VO Adjustable: TRUE; Vout(Max)(V): 5.5; Vout(Min)(V): 1.2; DatasheetVersion: SLTS217H; PackageVersion: 4205248-3/B; PackageReference: EUW10; PackageDescription: 10-Pin Plastic Special Shape, Body 15.75 x 25.27 mm; Supplier 1: Digi-Key; Supplier Part Number 1: 296-26316-ND; Supplier 2: Farnell; Supplier Part Number 2: 1103302; Supplier 3: Newark; Supplier Part Number 3: 97K7877; Supplier 4: Newark; Supplier Part Number 4: 58K6014; Supplier 5: Mouser; Supplier Part Number 5: 595-PTH12060WAD; Eco-Plan: Pb-Free (RoHS); Mounting Technology: Through Hole; ComponentLink1Description: Manufacturer URL; ComponentLink1URL: http://www.ti.com/; ComponentLink2Description: Datasheet; ComponentLink2URL: http://www.ti.com/general/docs/lit/getliterature.tsp?genericPartNumber=PTH12060W&fileType=pdf; ComponentLink3Description: Package Specification; ComponentLink3URL: http://www.ti.com/litv/pdf/mpds144a; ComponentLink4Description: URL Link1; ComponentLink4URL: Samples URL:http://www.ti.com/product/pth12060w#samples
footprint TI-EUW10_V (Module, 10-Leads, Body 25.27x15.75mm)
pins: 1 GND (power) "This is the common ground connection for the Vin and Vout power connections. It is also the 0 VDC reference for the control inputs.", 2 VI (power) "The positive input voltage power node to the module, which is referenced to common GND.", 3 ~{INHIBIT} (in) "The Inhibit pin is an open-collector/drain negative logic input that is referenced to GND. Applying a lowlevel ground signal to this input disables the module’s output and turns off the output voltage. When the Inhibit (See Datasheet)", 4 VO ADJUST (in) "A 0.1 W 1 % resistor must be directly connected between this pin and pin 7 (GND) to set the output voltage to a value higher than 0.8 V. The temperature stability of the resistor should be 100 ppm/degreesC (or better). The (See Datasheet)", 5 VO SENSE (in) "The sense input allows the regulation circuit to compensate for voltage drop between the module and the load. For optimal voltage accuracy Vo Sense should be connected to Vout. It can also be left disconnected.", 6 VO (power) "The regulated positive power output with respect to the GND node.", 7 GND (power) "This is the common ground connection for the Vin and Vout power connections. It is also the 0 VDC reference for the control inputs.", 8 TRACK (in) "This is an analog control input that enables the output voltage to follow an external voltage. This pin becomes active typically 20 ms after the input voltage has been applied, and allows direct control of the output voltage (See Datasheet)", 9 ~{MARGIN DOWN} (in) "When this input is asserted to GND, the output voltage is decreased by 5% from the nominal. The input requires an open-collector (open-drain) interface. It is not TTL compatible. A lower percent change can be accomodated (See Datasheet)", 10 ~{MARGIN UP} (in) "When this input is asserted to GND, the output voltage is increased by 5%. The input requires an open-collector (open-drain) interface. It is not TTL compatible. The percent change can be reduced with a series resistor. If (See Datasheet)"

## PTH12060WAH
designator U?
1.2 to 5.5 V, 10 A, 12 V Input Non-Isolated Wide Adjust Module, -40 to 85 degC, 10-pin Module (EUW10), Pb-Free (RoHS); Manufacturer: Texas Instruments; PartNumber: PTH12060WAH; Iout(Max)(A): 10; Regulated Outputs(#): 1; SubFamily: Non-Isolated POL; Vin(Max)(V): 13.2; Vin(Min)(V): 10.8; VO Adjustable: TRUE; Vout(Max)(V): 5.5; Vout(Min)(V): 1.2; DatasheetVersion: SLTS217H; PackageVersion: 4205248-3/B; PackageReference: EUW10; PackageDescription: 10-Pin Plastic Special Shape, Body 15.75 x 25.27 mm; Supplier 1: Digi-Key; Supplier Part Number 1: 296-20486-ND; Supplier 2: Farnell; Supplier Part Number 2: 1212259; Supplier 3: Farnell; Supplier Part Number 3: 2120305; Supplier 4: Newark; Supplier Part Number 4: 90H0362; Supplier 5: Mouser; Supplier Part Number 5: 595-PTH12060WAH; Eco-Plan: Pb-Free (RoHS); Mounting Technology: Through Hole; ComponentLink1Description: Manufacturer URL; ComponentLink1URL: http://www.ti.com/; ComponentLink2Description: Datasheet; ComponentLink2URL: http://www.ti.com/general/docs/lit/getliterature.tsp?genericPartNumber=PTH12060W&fileType=pdf; ComponentLink3Description: Package Specification; ComponentLink3URL: http://www.ti.com/litv/pdf/mpds144a; ComponentLink4Description: URL Link1; ComponentLink4URL: Samples URL:http://www.ti.com/product/pth12060w#samples
footprint TI-EUW10_V (Module, 10-Leads, Body 25.27x15.75mm)
pins: 1 GND (power) "This is the common ground connection for the Vin and Vout power connections. It is also the 0 VDC reference for the control inputs.", 2 VI (power) "The positive input voltage power node to the module, which is referenced to common GND.", 3 ~{INHIBIT} (in) "The Inhibit pin is an open-collector/drain negative logic input that is referenced to GND. Applying a lowlevel ground signal to this input disables the module’s output and turns off the output voltage. When the Inhibit (See Datasheet)", 4 VO ADJUST (in) "A 0.1 W 1 % resistor must be directly connected between this pin and pin 7 (GND) to set the output voltage to a value higher than 0.8 V. The temperature stability of the resistor should be 100 ppm/degreesC (or better). The (See Datasheet)", 5 VO SENSE (in) "The sense input allows the regulation circuit to compensate for voltage drop between the module and the load. For optimal voltage accuracy Vo Sense should be connected to Vout. It can also be left disconnected.", 6 VO (power) "The regulated positive power output with respect to the GND node.", 7 GND (power) "This is the common ground connection for the Vin and Vout power connections. It is also the 0 VDC reference for the control inputs.", 8 TRACK (in) "This is an analog control input that enables the output voltage to follow an external voltage. This pin becomes active typically 20 ms after the input voltage has been applied, and allows direct control of the output voltage (See Datasheet)", 9 ~{MARGIN DOWN} (in) "When this input is asserted to GND, the output voltage is decreased by 5% from the nominal. The input requires an open-collector (open-drain) interface. It is not TTL compatible. A lower percent change can be accomodated (See Datasheet)", 10 ~{MARGIN UP} (in) "When this input is asserted to GND, the output voltage is increased by 5%. The input requires an open-collector (open-drain) interface. It is not TTL compatible. The percent change can be reduced with a series resistor. If (See Datasheet)"

## PTH12060WAS
designator U?
1.2 to 5.5 V, 10 A, 12 V Input Non-Isolated Wide Adjust Module, -40 to 85 degC, 10-pin Module (EUY10); Manufacturer: Texas Instruments; PartNumber: PTH12060WAS; Eco-Plan: TBD; Iout(Max)(A): 10; Regulated Outputs(#): 1; SubFamily: Non-Isolated POL; Vin(Max)(V): 13.2; Vin(Min)(V): 10.8; VO Adjustable: TRUE; Vout(Max)(V): 5.5; Vout(Min)(V): 1.2; DatasheetVersion: SLTS217H; PackageVersion: 4205249-3/B; PackageReference: EUY10; PackageDescription: 10-Pin Plastic Special Shape, Body 15.75 x 25.27 mm; Supplier 1: Digi-Key; Supplier Part Number 1: 296-20487-ND; Supplier 2: Mouser; Supplier Part Number 2: 595-PTH12060WAS; Mounting Technology: Surface Mount; ComponentLink1Description: Manufacturer URL; ComponentLink1URL: http://www.ti.com/; ComponentLink2Description: Datasheet; ComponentLink2URL: http://www.ti.com/general/docs/lit/getliterature.tsp?genericPartNumber=PTH12060W&fileType=pdf; ComponentLink3Description: Package Specification; ComponentLink3URL: http://www.ti.com/lit/ml/mpds145a/mpds145a.pdf; ComponentLink4Description: URL Link1; ComponentLink4URL: Samples URL:http://www.ti.com/product/pth12060w#samples
footprint TI-EUY10_V (Module, 10-Leads, Body 25.27x15.75mm)
pins: 1 GND (power) "This is the common ground connection for the Vin and Vout power connections. It is also the 0 VDC reference for the control inputs.", 2 VI (power) "The positive input voltage power node to the module, which is referenced to common GND.", 3 ~{INHIBIT} (in) "The Inhibit pin is an open-collector/drain negative logic input that is referenced to GND. Applying a lowlevel ground signal to this input disables the module’s output and turns off the output voltage. When the Inhibit (See Datasheet)", 4 VO ADJUST (in) "A 1% resistor must be connected directly between this pin and GND (pin 7) to set the output voltage of the module higher than its lowest value. The temperature stability of the resistor should be 100 ppm/degreesC (or better).(See Datasheet)", 5 VO SENSE (in) "The sense input allows the regulation circuit to compensate for voltage drop between the module and the load. For optimal voltage accuracy Vo Sense should be connected to Vout. It can also be left disconnected.", 6 VO (power) "The regulated positive power output with respect to the GND node.", 7 GND (power) "This is the common ground connection for the Vin and Vout power connections. It is also the 0 VDC reference for the control inputs.", 8 TRACK (in) "This is an analog control input that enables the output voltage to follow an external voltage. This pin becomes active typically 20 ms after the input voltage has been applied, and allows direct control of the output voltage (See Datasheet)", 9 ~{MARGIN DOWN} (in) "When this input is asserted to GND, the output voltage is decreased by 5% from the nominal. The input requires an open-collector (open-drain) interface. It is not TTL compatible. A lower percent change can be accomodated (See Datasheet)", 10 ~{MARGIN UP} (in) "When this input is asserted to GND, the output voltage is increased by 5%. The input requires an open-collector (open-drain) interface. It is not TTL compatible. The percent change can be reduced with a series resistor. For (See Datasheet)"

## PTH12060WAST
designator U?
1.2 to 5.5 V, 10 A, 12 V Input Non-Isolated Wide Adjust Module, -40 to 85 degC, 10-pin Module (EUY10); Manufacturer: Texas Instruments; PartNumber: PTH12060WAST; Eco-Plan: TBD; Iout(Max)(A): 10; Regulated Outputs(#): 1; SubFamily: Non-Isolated POL; Vin(Max)(V): 13.2; Vin(Min)(V): 10.8; VO Adjustable: TRUE; Vout(Max)(V): 5.5; Vout(Min)(V): 1.2; DatasheetVersion: SLTS217H; PackageVersion: 4205249-3/B; PackageReference: EUY10; PackageDescription: 10-Pin Plastic Special Shape, Body 15.75 x 25.27 mm; Supplier 1: Digi-Key; Supplier Part Number 1: PTH12060WAST-ND; Supplier 2: Newark; Supplier Part Number 2: 01J0662; Supplier 3: Mouser; Supplier Part Number 3: 595-PTH12060WAST; Mounting Technology: Surface Mount; ComponentLink1Description: Manufacturer URL; ComponentLink1URL: http://www.ti.com/; ComponentLink2Description: Datasheet; ComponentLink2URL: http://www.ti.com/general/docs/lit/getliterature.tsp?genericPartNumber=PTH12060W&fileType=pdf; ComponentLink3Description: Package Specification; ComponentLink3URL: http://www.ti.com/lit/ml/mpds145a/mpds145a.pdf; ComponentLink4Description: URL Link1; ComponentLink4URL: Samples URL:http://www.ti.com/product/pth12060w#samples
footprint TI-EUY10_V (Module, 10-Leads, Body 25.27x15.75mm)
pins: 1 GND (power) "This is the common ground connection for the Vin and Vout power connections. It is also the 0 VDC reference for the control inputs.", 2 VI (power) "The positive input voltage power node to the module, which is referenced to common GND.", 3 ~{INHIBIT} (in) "The Inhibit pin is an open-collector/drain negative logic input that is referenced to GND. Applying a lowlevel ground signal to this input disables the module’s output and turns off the output voltage. When the Inhibit (See Datasheet)", 4 VO ADJUST (in) "A 1% resistor must be connected directly between this pin and GND (pin 7) to set the output voltage of the module higher than its lowest value. The temperature stability of the resistor should be 100 ppm/degreesC (or better).(See Datasheet)", 5 VO SENSE (in) "The sense input allows the regulation circuit to compensate for voltage drop between the module and the load. For optimal voltage accuracy Vo Sense should be connected to Vout. It can also be left disconnected.", 6 VO (power) "The regulated positive power output with respect to the GND node.", 7 GND (power) "This is the common ground connection for the Vin and Vout power connections. It is also the 0 VDC reference for the control inputs.", 8 TRACK (in) "This is an analog control input that enables the output voltage to follow an external voltage. This pin becomes active typically 20 ms after the input voltage has been applied, and allows direct control of the output voltage (See Datasheet)", 9 ~{MARGIN DOWN} (in) "When this input is asserted to GND, the output voltage is decreased by 5% from the nominal. The input requires an open-collector (open-drain) interface. It is not TTL compatible. A lower percent change can be accomodated (See Datasheet)", 10 ~{MARGIN UP} (in) "When this input is asserted to GND, the output voltage is increased by 5%. The input requires an open-collector (open-drain) interface. It is not TTL compatible. The percent change can be reduced with a series resistor. For (See Datasheet)"

## PTH12060WAZ
designator U?
1.2 to 5.5 V, 10 A, 12 V Input Non-Isolated Wide Adjust Module, -40 to 85 degC, 10-pin Module (EUY10), Pb-Free (RoHS); Manufacturer: Texas Instruments; PartNumber: PTH12060WAZ; Iout(Max)(A): 10; Regulated Outputs(#): 1; SubFamily: Non-Isolated POL; Vin(Max)(V): 13.2; Vin(Min)(V): 10.8; VO Adjustable: TRUE; Vout(Max)(V): 5.5; Vout(Min)(V): 1.2; DatasheetVersion: SLTS217H; PackageVersion: 4205249-3/B; PackageReference: EUY10; PackageDescription: 10-Pin Plastic Special Shape, Body 15.75 x 25.27 mm; Supplier 1: Digi-Key; Supplier Part Number 1: 296-20488-ND; Supplier 2: Farnell; Supplier Part Number 2: 1103303; Supplier 3: Newark; Supplier Part Number 3: 97K7878; Supplier 4: Newark; Supplier Part Number 4: 37K0758; Supplier 5: Mouser; Supplier Part Number 5: 595-PTH12060WAZ; Eco-Plan: Pb-Free (RoHS); Mounting Technology: Surface Mount; ComponentLink1Description: Manufacturer URL; ComponentLink1URL: http://www.ti.com/; ComponentLink2Description: Datasheet; ComponentLink2URL: http://www.ti.com/general/docs/lit/getliterature.tsp?genericPartNumber=PTH12060W&fileType=pdf; ComponentLink3Description: Package Specification; ComponentLink3URL: http://www.ti.com/lit/ml/mpds145a/mpds145a.pdf; ComponentLink4Description: URL Link1; ComponentLink4URL: Samples URL:http://www.ti.com/product/pth12060w#samples
footprint TI-EUY10_V (Module, 10-Leads, Body 25.27x15.75mm)
pins: 1 GND (power) "This is the common ground connection for the Vin and Vout power connections. It is also the 0 VDC reference for the control inputs.", 2 VI (power) "The positive input voltage power node to the module, which is referenced to common GND.", 3 ~{INHIBIT} (in) "The Inhibit pin is an open-collector/drain negative logic input that is referenced to GND. Applying a lowlevel ground signal to this input disables the module’s output and turns off the output voltage. When the Inhibit (See Datasheet)", 4 VO ADJUST (in) "A 1% resistor must be connected directly between this pin and GND (pin 7) to set the output voltage of the module higher than its lowest value. The temperature stability of the resistor should be 100 ppm/degreesC (or better).(See Datasheet)", 5 VO SENSE (in) "The sense input allows the regulation circuit to compensate for voltage drop between the module and the load. For optimal voltage accuracy Vo Sense should be connected to Vout. It can also be left disconnected.", 6 VO (power) "The regulated positive power output with respect to the GND node.", 7 GND (power) "This is the common ground connection for the Vin and Vout power connections. It is also the 0 VDC reference for the control inputs.", 8 TRACK (in) "This is an analog control input that enables the output voltage to follow an external voltage. This pin becomes active typically 20 ms after the input voltage has been applied, and allows direct control of the output voltage (See Datasheet)", 9 ~{MARGIN DOWN} (in) "When this input is asserted to GND, the output voltage is decreased by 5% from the nominal. The input requires an open-collector (open-drain) interface. It is not TTL compatible. A lower percent change can be accomodated (See Datasheet)", 10 ~{MARGIN UP} (in) "When this input is asserted to GND, the output voltage is increased by 5%. The input requires an open-collector (open-drain) interface. It is not TTL compatible. The percent change can be reduced with a series resistor. For (See Datasheet)"